# EAGLE library part AMP-1241150-8 (library jt-con-tyco)
AMPMODU II 2.54mm SMT unshrouded 8-position
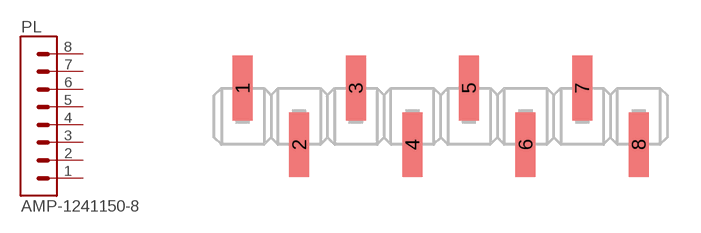
[diagram p2: symbol with the pads of AMP-1241150-8; footprint AMP-1241150-8]

Designator prefix PL

## AMP-1241150-8  [AMP-1241150-8]
1  1
2  2
3  3
4  4
5  5
6  6
7  7
8  8

## Footprint AMP-1241150-8 (pad centres in mm)
AMPMODU II 2.54mm SMT unshrouded 8-position
smd 0.9 x 2.9: 1 -8.89,1.27; 2 -6.35,-1.27; 3 -3.81,1.27; 4 -1.27,-1.27; 5 1.27,1.27; 6 3.81,-1.27; 7 6.35,1.27; 8 8.89,-1.27